# Altium schematic symbol library xunpu.SchLib: 10 symbols
Pins are listed as number, name and electrical type; pins without a type are passive.

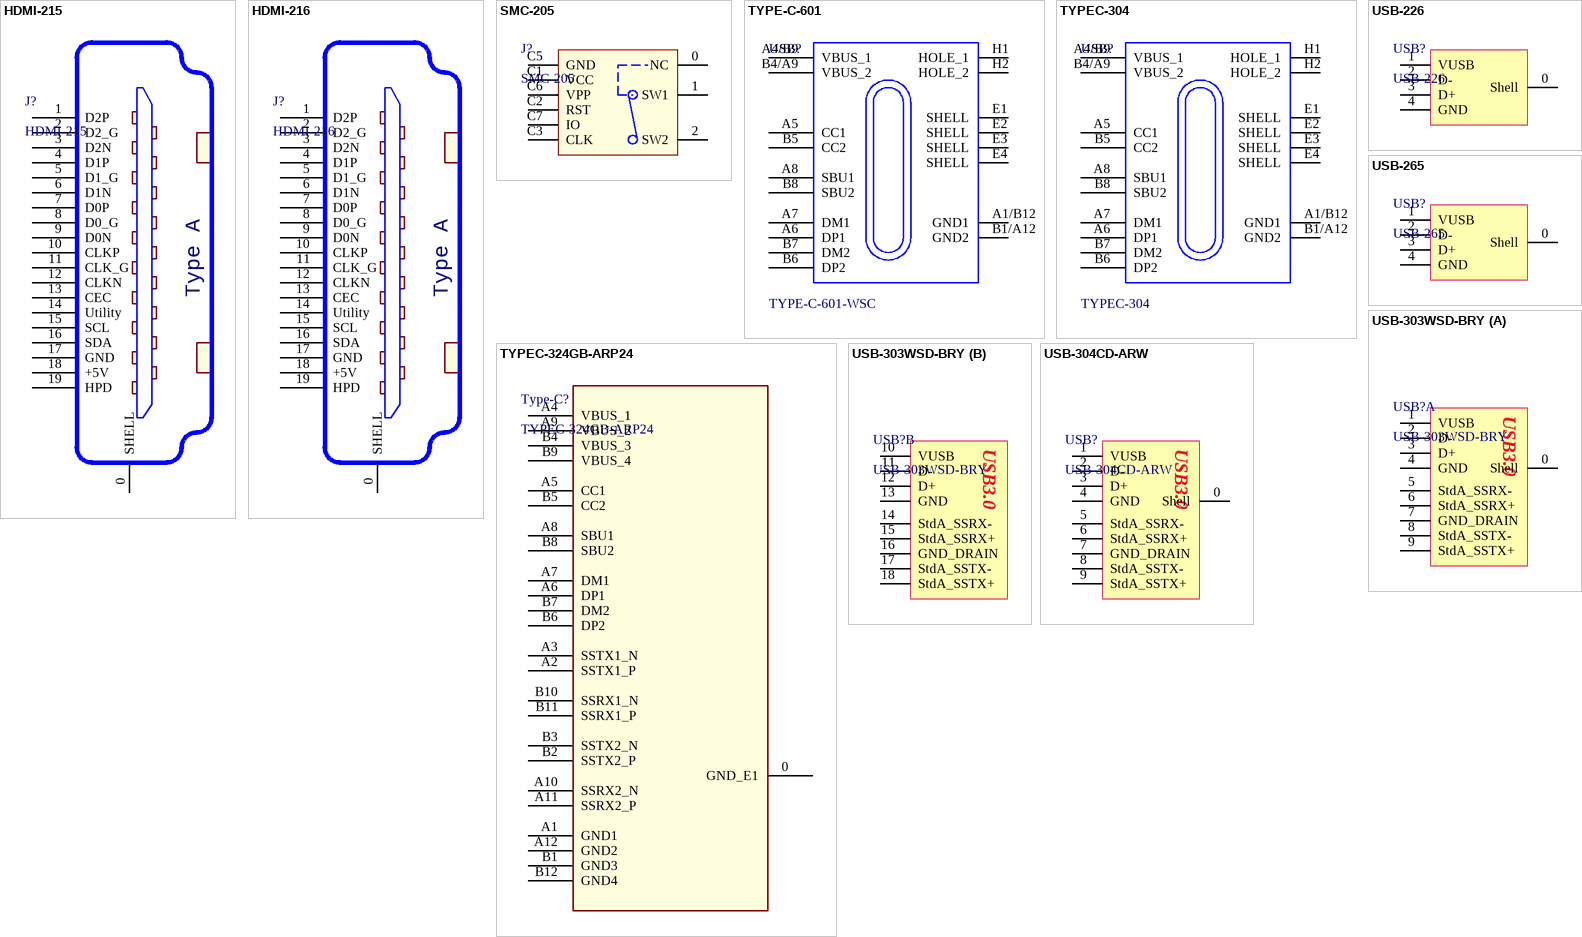
[diagram p0: symbols HDMI-215 to USB-304CD-ARW]

## HDMI-215
designator J?
讯普HDMI-215连接器
footprint HDMI-215
pins: 0 SHELL, 1 D2P, 2 D2_G, 3 D2N, 4 D1P, 5 D1_G, 6 D1N, 7 D0P, 8 D0_G, 9 D0N, 10 CLKP, 11 CLK_G, 12 CLKN, 13 CEC, 14 Utility, 15 SCL, 16 SDA, 17 GND, 18 +5V, 19 HPD
text: Type A

## HDMI-216
designator J?
讯普HDMI-216连接器
footprint HDMI-216
pins: 0 SHELL, 1 D2P, 2 D2_G, 3 D2N, 4 D1P, 5 D1_G, 6 D1N, 7 D0P, 8 D0_G, 9 D0N, 10 CLKP, 11 CLK_G, 12 CLKN, 13 CEC, 14 Utility, 15 SCL, 16 SDA, 17 GND, 18 +5V, 19 HPD
text: Type A

## SMC-205
designator J?
自弹式 带检测PIN MICRO SIM; Revised By: Z_xiao
footprint SMC-205
pins: 0 NC, 1 SW1, 2 SW2, C1 VCC, C2 RST, C3 CLK, C5 GND, C6 VPP, C7 IO

## TYPE-C-601
designator USB?, comment TYPE-C-601-WSC
16PIN(带2.0数据版) 卧式贴片型母座; Value: TYPE-C; 存货编码: 1120102031; 存货名称: 贴装USB座; 规格型号: USB2.0,type-c,母座,单层,横卧,16pin,（两脚为插装）
footprint TYPE-C-601-WSC
footprint TYPE-C-601-WSCL100
pins: A1/B12 GND1, A4/B9 VBUS_1, A5 CC1, A6 DP1, A7 DM1, A8 SBU1, B1/A12 GND2, B4/A9 VBUS_2, B5 CC2, B6 DP2, B7 DM2, B8 SBU2, E1 SHELL, E2 SHELL, E3 SHELL, E4 SHELL, H1 HOLE_1, H2 HOLE_2

## TYPEC-304
designator USB?
16PIN(带2.0数据版) 卧式贴片型母座; Value: TYPE-C; 存货编码: 1120102031; 存货名称: 贴装USB座; 规格型号: USB2.0,type-c,母座,单层,横卧,16pin,（两脚为插装）
footprint TYPEC-304-ACP16
pins: A1/B12 GND1, A4/B9 VBUS_1, A5 CC1, A6 DP1, A7 DM1, A8 SBU1, B1/A12 GND2, B4/A9 VBUS_2, B5 CC2, B6 DP2, B7 DM2, B8 SBU2, E1 SHELL, E2 SHELL, E3 SHELL, E4 SHELL, H1 HOLE_1, H2 HOLE_2

## TYPEC-324GB-ARP24
designator Type-C?
24PIN(全功能版)  母座  卧式 贴片型
footprint TYPEC-324GB-ARP24
pins: 0 GND_E1, A1 GND1, A2 SSTX1_P, A3 SSTX1_N, A4 VBUS_1, A5 CC1, A6 DP1, A7 DM1, A8 SBU1, A9 VBUS_2, A10 SSRX2_N, A11 SSRX2_P, A12 GND2, B1 GND3, B2 SSTX2_P, B3 SSTX2_N, B4 VBUS_3, B5 CC2, B6 DP2, B7 DM2, B8 SBU2, B9 VBUS_4, B10 SSRX1_N, B11 SSRX1_P, B12 GND4

## USB-226
designator USB?
USB2.0 侧立 母座 插脚型
footprint USB-226-BRW
pins: 0 Shell, 1 VUSB, 2 D-, 3 D+, 4 GND

## USB-265
designator USB?
USB2.0 侧立 母座 插脚型
footprint USB-265-BRW
pins: 0 Shell, 1 VUSB, 2 D-, 3 D+, 4 GND

## USB-303WSD-BRY
designator USB?
9pin 双排 卧插 卷边/无卷边 A型母座
footprint USB-303WSD-CRY
footprint USB-303WSD-BRY
footprint USB-303WSD-BRW
part A pins: 0 Shell, 1 VUSB, 2 D-, 3 D+, 4 GND, 5 StdA_SSRX-, 6 StdA_SSRX+, 7 GND_DRAIN, 8 StdA_SSTX-, 9 StdA_SSTX+
part B pins: 10 VUSB, 11 D-, 12 D+, 13 GND, 14 StdA_SSRX-, 15 StdA_SSRX+, 16 GND_DRAIN, 17 StdA_SSTX-, 18 StdA_SSTX+
part A text: USB3.0
part B text: USB3.0

## USB-304CD-ARW
designator USB?
USB3.0 侧立 母座 插脚型
footprint USB-304CD-ARW
pins: 0 Shell, 1 VUSB, 2 D-, 3 D+, 4 GND, 5 StdA_SSRX-, 6 StdA_SSRX+, 7 GND_DRAIN, 8 StdA_SSTX-, 9 StdA_SSTX+
text: USB3.0